# EAGLE library part ADS8684 (library texas1)
ADS868x 16-Bit, 500-kSPS, 4-Channel, Single-Supply, SAR ADCs with Bipolar Input Ranges Source: Data sheet <http://www.ti.com/lit/ds/symlink/ads8688.pdf>
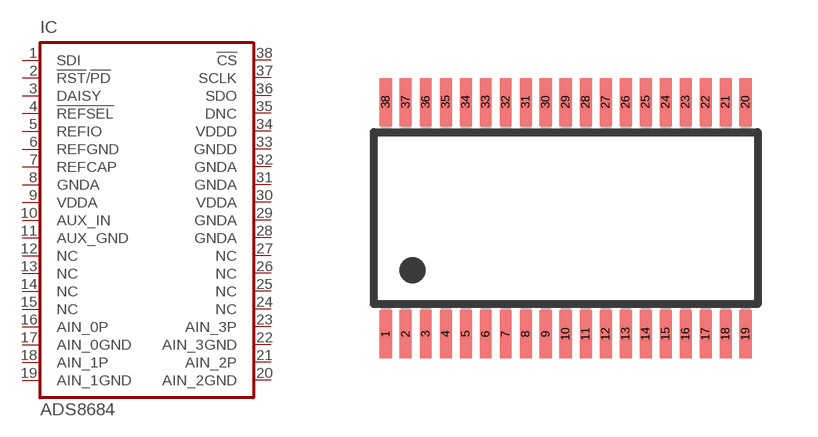
[diagram p123: symbol with the pads of DBT_R-PDSO-G38; footprint DBT_R-PDSO-G38]

Designator prefix IC

## ADS8684  [DBT_R-PDSO-G38]
1  SDI  in
2  !RST!/!PD  in
3  DAISY  in
4  !REFSEL  in
5  REFIO
6  REFGND  pwr
7  REFCAP  out
8  GNDA  pwr
9  VDDA  pwr
10  AUX_IN  in
11  AUX_GND  in
12  NC  nc
13  NC  nc
14  NC  nc
15  NC  nc
16  AIN_0P  in
17  AIN_0GND  in
18  AIN_1P  in
19  AIN_1GND  in
20  AIN_2GND  in
21  AIN_2P  in
22  AIN_3GND  in
23  AIN_3P  in
24  NC  nc
25  NC  nc
26  NC  nc
27  NC  nc
28  GNDA  pwr
29  GNDA  pwr
30  VDDA  pwr
31  GNDA  pwr
32  GNDA  pwr
33  GNDD  pwr
34  VDDD  pwr
35  DNC  nc
36  SDO
37  SCLK  in
38  !CS  in

## Footprint DBT_R-PDSO-G38 (pad centres in mm)
DBT (R-PSDO-G38) Source: http://focus.ti.com/lit/ml/mpds019g/mpds019g.pdf
smd 0.3 x 1.2: 1 -4.5,-2.9; 2 -4,-2.9; 3 -3.5,-2.9; 4 -3,-2.9; 5 -2.5,-2.9; 6 -2,-2.9; 7 -1.5,-2.9; 8 -1,-2.9; 9 -0.5,-2.9; 10 0,-2.9; 11 0.5,-2.9; 12 1,-2.9; 13 1.5,-2.9; 14 2,-2.9; 15 2.5,-2.9; 16 3,-2.9; 17 3.5,-2.9; 18 4,-2.9; 19 4.5,-2.9; 20 4.5,2.9; 21 4,2.9; 22 3.5,2.9; 23 3,2.9; 24 2.5,2.9; 25 2,2.9; 26 1.5,2.9; 27 1,2.9; 28 0.5,2.9; 29 0,2.9; 30 -0.5,2.9; 31 -1,2.9; 32 -1.5,2.9; 33 -2,2.9; 34 -2.5,2.9; 35 -3,2.9; 36 -3.5,2.9; 37 -4,2.9; 38 -4.5,2.9